# EAGLE library part SN74LVC3G14 (library m_ic-comm)
SN74LVC3G14 Triple Schmitt-Trigger Inverter Description This triple Schmitt-trigger inverter is designed for 1.65-V to 5.5-V VCC operation. The SN74LVC3G14 contains three inverters and performs the Boolean function Y = A. The device functions as three independent inverters but, because of Schmitt action, it may have different input threshold levels for positive-going (VT+) and negative-going (VT–) signals. NanoFree™ package technology is a major breakthrough in IC packaging concepts, using the die as the package. This device is fully specified for partial-power-down applications using Ioff. The Ioff circuitry disables the outputs, preventing damaging current backflow through the device when it is powered down. Features Available in the Texas Instruments NanoFree Package Supports 5-V VCC Operation Inputs Accept Voltages to 5.5 V Max tpd of 5.4 ns at 3.3 V Low Power Consumption, 10-μA Max ICC ±24-mA Output Drive at 3.3 V Typical VOLP (Output Ground Bounce) <0.8 V at VCC = 3.3 V, TA = 25°C Typical VOHV (Output VOH Undershoot) >2 V at VCC = 3.3 V, TA = 25°C Ioff Feature Supports Live Insertion, Partial-Power-Down Mode and Back Drive Protection Latch-Up Performance Exceeds 100 mA Per JESD 78, Class II ESD Protection Exceeds JESD 22 2000-V Human-Body Model (A114-A) 200-V Machine Model (A115-A) 1000-V Charged-Device Model (C101) Datasheet link: http://www.ti.com/lit/gpn/sn74lvc3g14 Octopart Search <https://octopart.com/search?q=SN74LVC3G14>
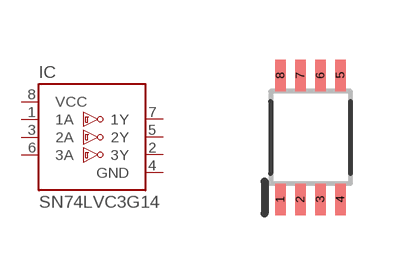
[diagram p6: symbol with the pads of S-PDSO-G8; footprint S-PDSO-G8]

Designator prefix IC

## SN74LVC3G14DCU (MANUF: TI; PARTNUM: SN74LVC3G14DCU*; VALUE: SN74LVC3G14)  [S-PDSO-G8]
1  1A  pas
2  3Y  pas
3  2A  pas
4  GND  pas
5  2Y  pas
6  3A  pas
7  1Y  pas
8  VCC  pas

## Footprint S-PDSO-G8 (pad centres in mm)
S-PDSO-G8 SMT Plastic Small Outline Package (DCU) Based on data from TI drawings 4210064/C 04/12 and 4200503/F 07/05 Added 2018-08-29
smd 0.3 x 0.8: 1 -0.75,-1.55; 2 -0.25,-1.55; 3 0.25,-1.55; 4 0.75,-1.55; 5 0.75,1.55; 6 0.25,1.55; 7 -0.25,1.55; 8 -0.75,1.55